# Altium footprint library Alimentation Réglable.PcbLib: 1 footprints
Each footprint in its own frame and in the unit in brackets; x right, y up, seen from the top. Pads: shape width x height; smd on the part's side, far side on the other; paste and mask are expansions set on the pad; w line width, h text height; cw(c..) or ccw(c..) is an arc to the next point about the centre after c.
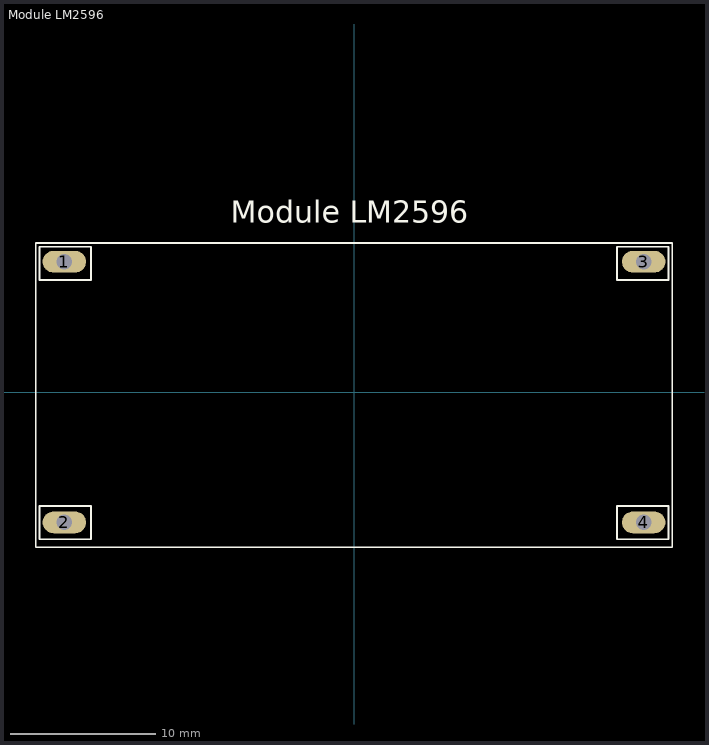
[diagram p0: the footprint, top view; thin cyan lines are the x and y axes]

## Module LM2596 [mm]
pads (4):
  oval 3x1.5 hole 1.07: 1(-20,9) 2(-20,-9) 3(20,9) 4(20,-9)
Top Overlay:
  lines w0.127: -21.971,-10.713 -21.971,10.287 21.971,10.287 21.971,-10.713 -21.971,-10.713 ; -21.717,-10.16 -18.161,-10.16 -18.161,-7.874 -21.717,-7.874 -21.717,-10.16 ; -21.717,7.747 -21.717,10.033 -18.161,10.033 -18.161,7.747 -21.717,7.747 ; 18.161,-10.16 21.717,-10.16 21.717,-7.874 18.161,-7.874 18.161,-10.16 ; 18.161,7.747 21.717,7.747 21.717,10.033 18.161,10.033 18.161,7.747
  text "Module LM2596" at -8.509,11.684 h1.52
3D body: height 1.25, standoff -1.25, extent 2.921,4.826 2.921,4.826
3D body "MC00100--3DModel-STEP-269445.STEP": height 13, standoff -0.3, extent -21.246,-10.627 21.754,10.373